# Altium schematic symbol library SuperCapacitors.SchLib: 2 symbols
Pins are listed as number, name and electrical type; pins without a type are passive.

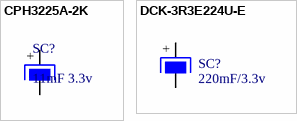
[diagram p0: symbols CPH3225A-2K to DCK-3R3E224U-E]

## CPH3225A-2K
designator SC?, comment 11mF 3.3v
CAP 11MF 3.3V SURFACE MOUNT; Manufacturer: Seiko; Manufacturer Part Number: CPH3225A-2K; Supplier 1: Digi-Key; Stock 1: 146093; Pricing 1: 1 = 2,27000, 10 = 1,83400, 100 = 1,40070, 500 = 1,06720, 1000 = 0,93380 (USD); Value: 11mF 3.3v; Supplier Part Number 1: 728-1067-1-ND
footprint CPH3225A-2K
pins: +, -

## DCK-3R3E224U-E
designator SC?, comment 220mF/3.3v
CAP 220MF -20% +80% 3.3V SMD; Manufacturer: Elna America; Manufacturer Part Number: DCK-3R3E224U-E; Tolerance: -20%, +80%; ESR (Equivalent Series Resistance): 200 Ohm @ 1kHz; Lifetime @ Temp.: 1000 Hrs @ 60°C; Supplier 1: Digi-Key; RoHS: RoHS Compliant; Category: Capacitors; Stock 1: 32796; Pricing 1: 1=1.41, 10=1.114, 25=1.0208, 50=0.9652, 100=0.8352, 250=0.7424, 500=0.63104, 1000=0.5568, 5000=0.50112 (USD); Packaging: Bulk; Part Status: Active; Capacitance: 220mF; Voltage - Rated: 3.3V; Termination: Solder Pads; Mounting Type: Surface Mount; Package / Case: Coin, Wide Terminals - Same Sides; Lead Spacing: -; Size / Dimension: 0.268" Dia (6.80mm); Height - Seated (Max): 0.083" (2.10mm); Operating Temperature: -10°C ~ 60°C; ComponentLink1URL: http://media.digikey.com/pdf/Data%20Sheets/Elna%20America%20Inc/DC_DCKe.pdf; ComponentLink1Description: http://media.digikey.com/pdf/Data%20Sheets/Elna%20America%20Inc/DC_DCKe.pdf; Supplier Part Number 1: 604-1007-ND; Value: 220mF/3.3v
footprint DCK-3R3E224U-E (SuperCap)
footprint DCK-3R3E224U-E (SuperCap)
pins: +, -